# Altium schematic symbol library SCH - DIODES - DIODE_RGP02.SCHLIB: 1 symbol
Pins are listed as number, name and electrical type; pins without a type are passive.

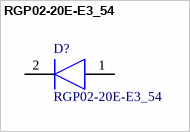
[diagram p0: symbol RGP02-20E-E3_54]

## RGP02-20E-E3_54
designator D?
Diode; Manufacturer: Vishay; Manufacturer Part Number: RGP02-20E-E3/54; Category: standard; Created: 2020_10_28_MGremer; Supplier 1: Mouser; Supplier Part Number 1: 625-RGP02-20E-E3
footprint DIOAD1405W86L465D235
pins: 1 A, 2 K